# EAGLE library part 2227595-1 (library 2227595-1)
I/O Connectors 1X1 VERT ASSY, MINI SAS HD INTERNAL Source: Datasheet <http://www.te.com/commerce/DocumentDelivery/DDEController?Action=srchrtrv&DocNm=2227595&DocType=Customer Drawing&DocLang=English>
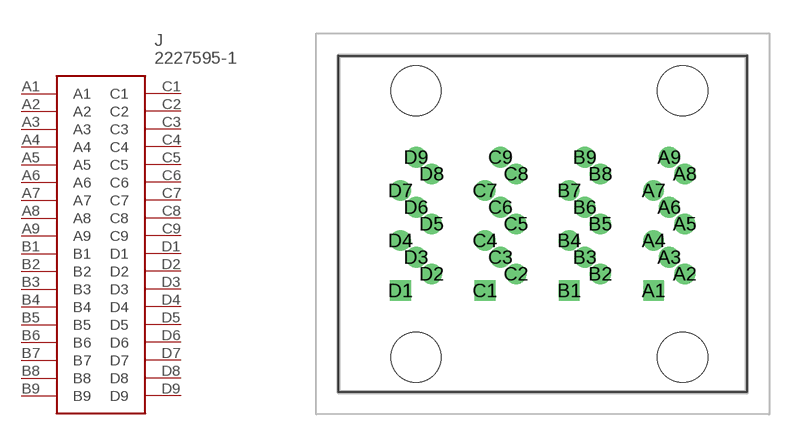
[diagram p0: symbol with the pads of 22275951; footprint 22275951]

Designator prefix J

## 2227595-1 (Description: I/O Connectors 1X1 VERT ASSY, MINI SAS HD INTERNAL; Height: 14.2mm; Manufacturer_Name: TE Connectivity; Manufacturer_Part_Number: 2227595-1; Mouser_Part_Number: 571-2227595-1; Mouser_Price-Stock: https://www.mouser.co.uk/ProductDetail/TE-Connectivity/2227595-1?qs=ZH26iPUykMX7%2FUCsNC121Q%3D%3D)  [22275951]
A1  A1
A2  A2
A3  A3
A4  A4
A5  A5
A6  A6
A7  A7
A8  A8
A9  A9
B1  B1
B2  B2
B3  B3
B4  B4
B5  B5
B6  B6
B7  B7
B8  B8
B9  B9
C1  C1
C2  C2
C3  C3
C4  C4
C5  C5
C6  C6
C7  C7
C8  C8
C9  C9
D1  D1
D2  D2
D3  D3
D4  D4
D5  D5
D6  D6
D7  D7
D8  D8
D9  D9

## Footprint 22275951 (pad centres in mm)
2227595-1-5
drill 0.42 pad 0.8 square: A1 0,0; B1 -3.8,0; C1 -7.6,0; D1 -11.4,0
drill 0.42 pad 0.8: A2 1.4,0.75; A3 0.7,1.5; A4 0,2.25; A5 1.4,3; A6 0.7,3.75; A7 0,4.5; A8 1.4,5.25; A9 0.7,6; B2 -2.4,0.75; B3 -3.1,1.5; B4 -3.8,2.25; B5 -2.4,3; B6 -3.1,3.75; B7 -3.8,4.5; B8 -2.4,5.25; B9 -3.1,6; C2 -6.2,0.75; C3 -6.9,1.5; C4 -7.6,2.25; C5 -6.2,3; C6 -6.9,3.75; C7 -7.6,4.5; C8 -6.2,5.25; C9 -6.9,6; D2 -10,0.75; D3 -10.7,1.5; D4 -11.4,2.25; D5 -10,3; D6 -10.7,3.75; D7 -11.4,4.5; D8 -10,5.25; D9 -10.7,6
hole 2.25 at 1.3,-3
hole 2.25 at 1.3,9
hole 2.25 at -10.7,-3
hole 2.25 at -10.7,9